# Altium schematic symbol library 电容电阻电感.SchLib: 16 symbols
Pins are listed as number, name and electrical type; pins without a type are passive.

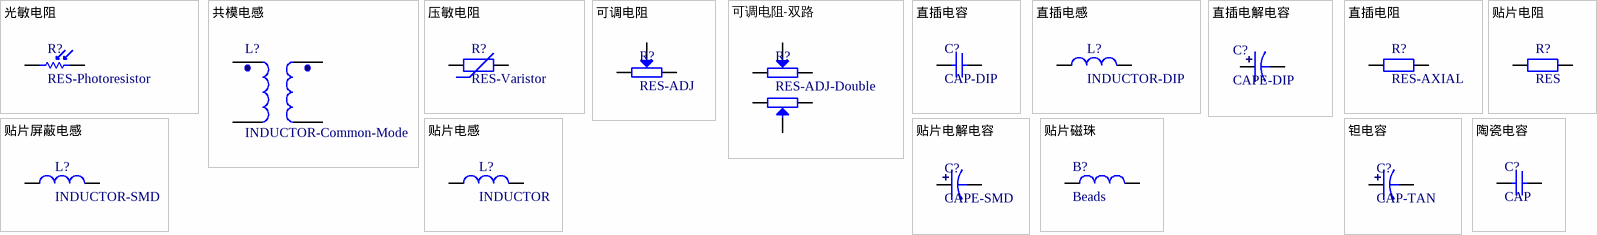
[diagram p0: symbols 光敏电阻 to 陶瓷电容]

## 光敏电阻
designator R?, comment RES-Photoresistor
光敏电阻
footprint RES-Photoresistor (光敏电阻)
pins: 1, 2

## 共模电感
designator L?, comment INDUCTOR-Common-Mode
共模电感
footprint L-UU10.5 (18*16*20mm(长宽高）)
footprint L-UU16 (22*17.5*23mm(长宽高）)
footprint L-UU9.8 (17*12*17mm(长宽高）)
pins: 1, 2, 3, 4

## 压敏电阻
designator R?, comment RES-Varistor
压敏电阻
footprint RES-Varistor-7.5mm (压敏电阻)
pins: 1, 2

## 可调电阻
designator R?, comment RES-ADJ
可调电阻
footprint RES-ADJ-09-1
footprint RES-ADJ-3296W
footprint RES-ADJ-3296X
footprint RES-ADJ-3362P
footprint RES-ADJ-3362S
footprint RES-ADJ-RM065
footprint RES-ADJ-SMD-3X3
footprint RES-ADJ-WH148-1
pins: 1, 2, 3

## 可调电阻-双路
designator R?, comment RES-ADJ-Double
可调电阻
footprint RES-ADJ-WH148-2
footprint RES-ADJ-09-2
pins: 1, 2, 3, 4, 5, 6

## 直插电容
designator C?, comment CAP-DIP
直插无极电容
footprint CAP_2.54MM
footprint CAP_5.08MM
pins: 1, 2

## 直插电感
designator L?, comment INDUCTOR-DIP
直插电感
footprint L-AL0204 (9*2*4mm（脚距，直径，长度）)
footprint L-AL0204_V (3*2*4mm（脚距，直径，长度）)
footprint L-AL0307 (11*3*7mm（脚距，直径，长度）)
footprint L-AL0307_V (3.5*3*7mm（脚距，直径，长度）)
footprint L-AL0410 (15*4*10.5mm（脚距，直径，长度）)
footprint L-AL0410_V (5*4*10.5mm（脚距，直径，长度）)
footprint L-AL0510 (16*5*10.5mm（脚距，直径，长度）)
footprint L-AL0510_V (6*5*10.5mm（脚距，直径，长度）)
footprint L-PK0406 (2*5*8mm(脚距，直径，高）)
footprint L-PK0608 (2.5*7*10mm(脚距，直径，高）)
footprint L-PK0810 (5*9*12mm(脚距，直径，高）)
footprint L-PK0912 (6*10*14mm(脚距，直径，高）)
footprint L-PK1012 (6*11*14mm(脚距，直径，高）)
footprint L-PK1415 (7.5*15*17mm(脚距，直径，高）)
footprint L-PK1618 (12.5*17*20mm(脚距，直径，高）)
footprint L-PK1818 (15*19*20mm(脚距，直径，高）)
footprint L-TC5026
pins: 1, 2

## 直插电解电容
designator C?, comment CAPE-DIP
直插电解电容
footprint DIP-EC1.5X4X8
footprint DIP-EC1.5X4X8-A
footprint DIP-EC2.0X5X11
footprint DIP-EC2.0X5X11-A
footprint DIP-EC2.5X5X11
footprint DIP-EC2.5X5X11-A
footprint DIP-EC2.5X6.3X11.2-A
footprint DIP-EC2.5X6.3X11.2
footprint DIP-EC3.5X8X11.5
footprint DIP-EC3.5X8X11.5-A
footprint DIP-EC5.0X10X12.5
footprint DIP-EC5.0X10X12.5-A
footprint DIP-EC5.0X10X16
footprint DIP-EC5.0X10X16-A
footprint DIP-EC5.0X10X20
footprint DIP-EC5.0X10X20-A
footprint DIP-EC5.0X12.5X20
footprint DIP-EC5.0X12.5X20-A
footprint DIP-EC5.0X12.5X25
footprint DIP-EC5.0X12.5X25-A
footprint DIP-EC5X11
footprint DIP-EC6.3X11
footprint DIP-EC7.5X16X25
footprint DIP-EC7.5X16X25-A
footprint DIP-EC7.5X16X31.5
footprint DIP-EC7.5X16X31.5-A
footprint DIP-EC7.5X18X35.5
footprint DIP-EC7.5X18X35.5-A
footprint DIP-EC8X12
footprint DIP-EC10X17
footprint DIP-EC10X22X31.5
footprint DIP-EC10X22X40
pins: 1, 2

## 直插电阻
designator R?, comment RES-AXIAL
直插电阻
footprint RES-AXIAL0.1
footprint RES-AXIAL0.2 (1/6W)
footprint RES-AXIAL1.0 (Adjustable Magnetic-Core Inductor; 2 Leads)
footprint RES-AXIAL0.9 (Magnetic-Core Inductor; 2 Leads)
footprint RES-AXIAL0.8 (Adjustable Inductor; 2 Leads)
footprint RES-AXIAL0.7 (Variable Resistor; 2 Leads)
footprint RES-AXIAL0.6 (Variable Resistor; 2 Leads)
footprint RES-AXIAL0.5 (1/2W/1W)
footprint RES-AXIAL0.4 (1/4W/1/2W)
footprint RES-AXIAL0.3
footprint RES-AXIAL0.1-L
pins: 1, 2

## 贴片屏蔽电感
designator L?, comment INDUCTOR-SMD
贴片屏蔽电感
footprint L-CD104 (10*9*4mm（长宽高）)
footprint L-CD105 (10*9*5.4mm（长宽高）)
footprint L-CD106 (10*9*6.5mm（长宽高）)
footprint L-CD31 (3.5*3*1mm（长宽高）)
footprint L-CD32 (3.5*3*2mm（长宽高）)
footprint L-CD42 (4.5*4*2mm（长宽高）)
footprint L-CD43 (4.5*4*3.2mm（长宽高）)
footprint L-CD52 (5.8*5.2*3mm（长宽高）)
footprint L-CD53 (5.8*5.2*3.5mm（长宽高）)
footprint L-CD54 (5.8*5.2*4.5mm（长宽高）)
footprint L-CD73 (7.8*7*3.5mm（长宽高）)
footprint L-CD75 (7.8*7*5mm（长宽高）)
footprint L-CDRH104R
footprint L-CDRH127R
footprint L-CDRH3D16
footprint L-CDRH4D28
footprint L-CDRH6D28
footprint L-CDRH74R
pins: 1, 2

## 贴片电感
designator L?, comment INDUCTOR
贴片电感
footprint L-0402
footprint L-0603
footprint L-0805
footprint L-1210
footprint L-1206 (小功率贴片电感)
footprint L-1806 (小功率贴片电感)
footprint L-1812 (小功率贴片电感)
pins: 1, 2

## 贴片电解电容
designator C?, comment CAPE-SMD
贴片电解电容
footprint CAPE_A_3X3.3X5.4
footprint CAPE_B_4X4.3X5.4
footprint CAPE_C_5X5.3X5.4
footprint CAPE_D_6.3X6.6X5.4
footprint CAPE_E_8X8.3X6.2
footprint CAPE_F_8X8.3X10.2
footprint CAPE_G_10X10.3X10.2
footprint CAPE_H_12.5
footprint CAPE_I_16
pins: 1, 2

## 贴片电阻
designator R?, comment RES
贴片电阻
footprint Res-0603
footprint Res-0805
footprint Res-1206
footprint Res-1210
footprint Res-1812
footprint Res-2010
footprint Res-2512
footprint RES-0201
footprint RES-0201-M
footprint Res-0402-M
footprint Res-0603-M
footprint Res-0805-M
pins: 1, 2

## 贴片磁珠
designator B?, comment Beads
贴片磁珠
footprint B-0402 (贴片磁珠)
footprint B-0603 (贴片磁珠)
footprint B-0805 (贴片磁珠)
footprint B-1206 (贴片磁珠)
footprint B-1806 (贴片磁珠)
pins: 1, 2

## 钽电容
designator C?, comment CAP-TAN
钽电容
footprint CAP_TAN_3216_A
footprint CAP_TAN_3528_B
footprint CAP_TAN_6032_C
footprint CAP_TAN_7343_D
pins: 1, 2

## 陶瓷电容
designator C?, comment CAP
贴片陶瓷电容
footprint Cap-0603
footprint Cap-0805
footprint Cap-1210
footprint Cap-1825
footprint CAP-0402
footprint Cap-1206
footprint CAP-0201
footprint CAP-0201-M
footprint CAP-0402-M
footprint Cap-0603-M
footprint Cap-0805-M
footprint CAP-2225
pins: 1, 2